# EAGLE library part ATTINY4/5/9/10 (library CPSS_CPU)
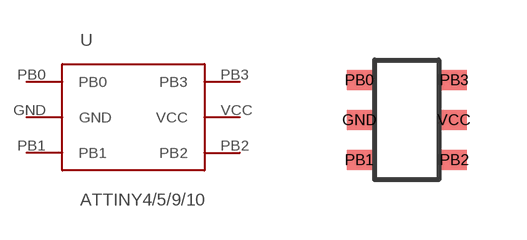
[diagram p0: symbol with the pads of 6ST1; footprint 6ST1]

Designator prefix -

## ATTINY4/5/9/10  [6ST1]
GND  GND
PB0  PB0
PB1  PB1
PB2  PB2
PB3  PB3
VCC  VCC

## Footprint 6ST1 (pad centres in mm)
smd 0.625 x 0.5: GND -1.188,0; PB0 -1.188,1; PB1 -1.188,-1; PB2 1.188,-1; PB3 1.188,1; VCC 1.188,0